# Altium integrated library Microchip PIC10.IntLib: 94 symbols (part 3 of 3)
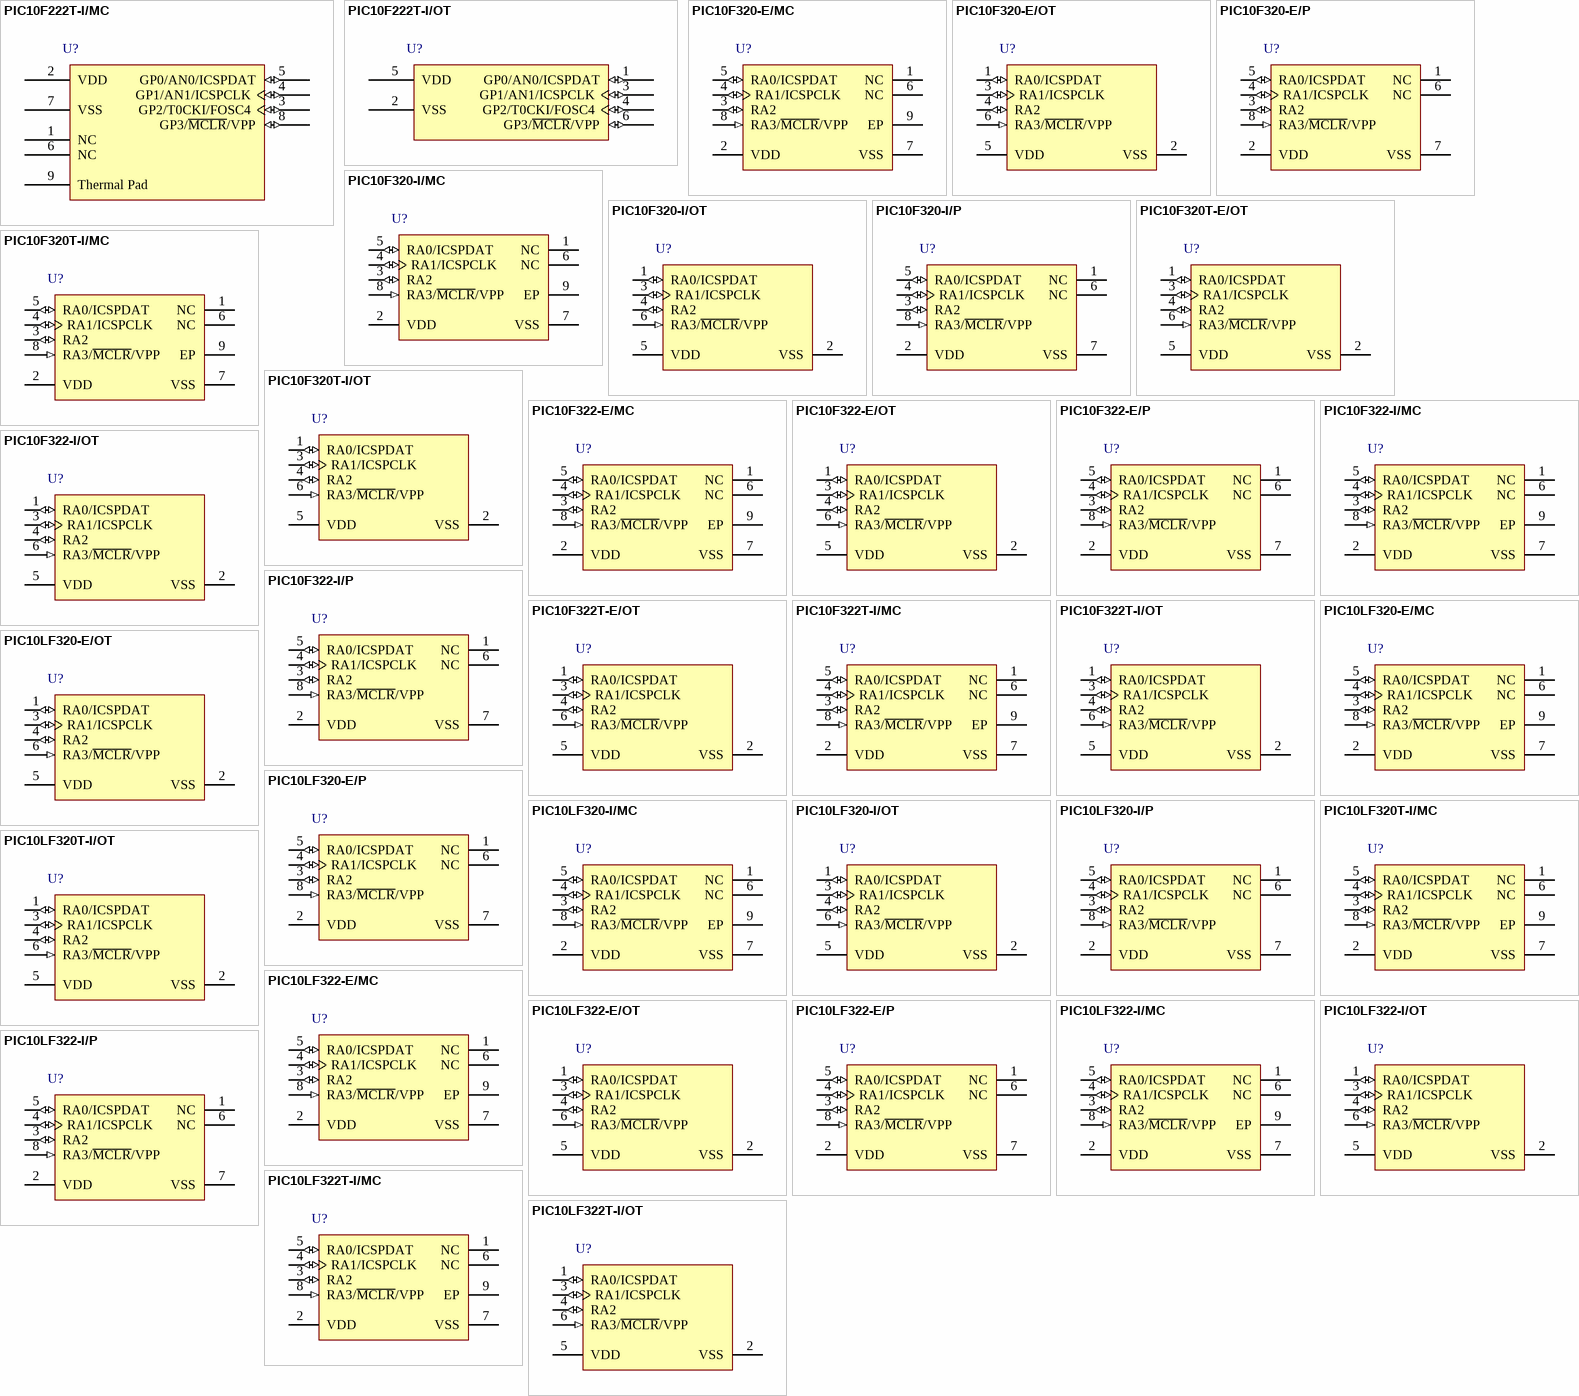
[diagram p4: symbols PIC10F222T-I/MC to PIC10LF322T-I/OT]

## PIC10LF320-E/P
designator U?
High-Performance, Flash Microcontroller, 16 MHz, 3 I/O, -40 to 125 degC, 8-pin PDIP (P8), Tube; Manufacturer: Microchip; PartNumber: PIC10LF320-E/P; # of A/D Channels: 3; Digital Communication: 0 -UART; Internal Oscillator: 16 MHz, 31 kHz; Max. CPU Speed MHz: 16; Operation Voltage Range: 1.8V - 3.6V; Program Memory KBytes: 0.4375; Program Memory KWords: 0.25; RAM: 64; Timers: 2 - 8-bit; DatasheetVersion: Rev. A; PackageVersion: C04-018B, 12/2012; PackageReference: PDIP-P8; PackageDescription: 8-Lead Plastic Dual In-Line, Row Spacing 7.62 mm, 9.5 x 6.6 mm Body, 2.54 mm Pitch; Supplier 1: Digi-Key; Supplier Part Number 1: PIC10LF320-E/P-ND; Supplier 2: Mouser; Supplier Part Number 2: 579-PIC10LF320-E/P; I/O Pins: 3; Memory Type: Flash; Packing: TUBE; Mounting Technology: Through Hole; ComponentLink1Description: Manufacturer URL; ComponentLink1URL: http://www.microchip.com/; ComponentLink2Description: Datasheet; ComponentLink2URL: http://ww1.microchip.com/downloads/en/DeviceDoc/41585A.pdf; ComponentLink3Description: Package Specification; ComponentLink3URL: http://www.microchip.com/stellent/groups/techpub_sg/documents/packagingspec/en012702.pdf; ComponentLink4Description: URL Link1; ComponentLink4URL: Product URL:http://www.microchip.com/datasheet/PIC10F320
footprint MCHP-PDIP-P8 (PDIP, 8-Leads, Body 9.5x6.604mm, Pitch 2.54mm)
pins: 1 NC, 2 VDD (power) "Positive supply.", 3 RA2 (io), 4 RA1/ICSPCLK (io), 5 RA0/ICSPDAT (io), 6 NC, 7 VSS (power) "Ground reference.", 8 RA3/~{MCLR}/VPP (in)

## PIC10LF320-I/MC
designator U?
High-Performance, Flash Microcontroller, 16 MHz, 3 I/O, -40 to 85 degC, 8-pin DFN (MC8), Tube; Manufacturer: Microchip; PartNumber: PIC10LF320-I/MC; # of A/D Channels: 3; Digital Communication: 0 -UART; Internal Oscillator: 16 MHz, 31 kHz; Max. CPU Speed MHz: 16; Operation Voltage Range: 1.8V - 3.6V; Program Memory KBytes: 0.4375; Program Memory KWords: 0.25; RAM: 64; Timers: 2 - 8-bit; DatasheetVersion: Rev. A; PackageVersion: C04-123C, 12/2012; PackageReference: DFN-MC8; PackageDescription: 8-Lead Plastic Dual Flat, 2 x 3 mm Body, 0.5 mm Pitch; Supplier 1: Digi-Key; Supplier Part Number 1: PIC10LF320-I/MC-ND; Supplier 2: Farnell; Supplier Part Number 2: 2074921; Supplier 3: Newark; Supplier Part Number 3: 41T4347; Supplier 4: Mouser; Supplier Part Number 4: 579-PIC10LF320-I/MC; I/O Pins: 3; Memory Type: Flash; Packing: TUBE; Mounting Technology: Surface Mount; ComponentLink1Description: Manufacturer URL; ComponentLink1URL: http://www.microchip.com/; ComponentLink2Description: Datasheet; ComponentLink2URL: http://ww1.microchip.com/downloads/en/DeviceDoc/41585A.pdf; ComponentLink3Description: Package Specification; ComponentLink3URL: http://www.microchip.com/stellent/groups/techpub_sg/documents/packagingspec/en012702.pdf; ComponentLink4Description: URL Link1; ComponentLink4URL: Product URL:http://www.microchip.com/datasheet/PIC10F320
footprint MCHP-DFN-MC8_V (SON, 8-Leads, Body 3x2mm, Pitch 0.5mm, Thermal Pad 1.45x1.75mm)
pins: 1 NC, 2 VDD (power) "Positive supply.", 3 RA2 (io), 4 RA1/ICSPCLK (io), 5 RA0/ICSPDAT (io), 6 NC, 7 VSS (power) "Ground reference.", 8 RA3/~{MCLR}/VPP (in), 9 EP

## PIC10LF320-I/OT
designator U?
High-Performance, Flash Microcontroller, 16 MHz, 3 I/O, -40 to 85 degC, 6-pin SOT-23 (OT6), Bag; Manufacturer: Microchip; PartNumber: PIC10LF320-I/OT; # of A/D Channels: 3; Digital Communication: 0 -UART; Internal Oscillator: 16 MHz, 31 kHz; Max. CPU Speed MHz: 16; Operation Voltage Range: 1.8V - 3.6V; Program Memory KBytes: 0.4375; Program Memory KWords: 0.25; RAM: 64; Timers: 2 - 8-bit; DatasheetVersion: Rev. A; PackageVersion: C04-028B, 12/2012; PackageReference: SOT-23-OT6; PackageDescription: 6-Lead Plastic Small Outline Transistor, 2.9 x 1.55 mm Body, 0.95 mm Pitch; Supplier 1: Digi-Key; Supplier Part Number 1: PIC10LF320-I/OT-ND; Supplier 2: Newark; Supplier Part Number 2: 41T4348; Supplier 3: Mouser; Supplier Part Number 3: 579-PIC10LF320-I/OT; I/O Pins: 3; Memory Type: Flash; Packing: BAG; Mounting Technology: Surface Mount; ComponentLink1Description: Manufacturer URL; ComponentLink1URL: http://www.microchip.com/; ComponentLink2Description: Datasheet; ComponentLink2URL: http://ww1.microchip.com/downloads/en/DeviceDoc/41585A.pdf; ComponentLink3Description: Package Specification; ComponentLink3URL: http://www.microchip.com/stellent/groups/techpub_sg/documents/packagingspec/en012702.pdf; ComponentLink4Description: URL Link1; ComponentLink4URL: Product URL:http://www.microchip.com/datasheet/PIC10F320
footprint MCHP-SOT-23-OT6_N (SOT23, 6-Leads, Body 2.9x1.55mm, Pitch 0.95mm, IPC Medium Density)
footprint MCHP-SOT-23-OT6_L (SOT23, 6-Leads, Body 2.9x1.55mm, Pitch 0.95mm, IPC High Density)
footprint MCHP-SOT-23-OT6_M (SOT23, 6-Leads, Body 2.9x1.55mm, Pitch 0.95mm, IPC Low Density)
pins: 1 RA0/ICSPDAT (io), 2 VSS (power) "Ground reference.", 3 RA1/ICSPCLK (io), 4 RA2 (io), 5 VDD (power) "Positive supply.", 6 RA3/~{MCLR}/VPP (in)

## PIC10LF320-I/P
designator U?
High-Performance, Flash Microcontroller, 16 MHz, 3 I/O, -40 to 85 degC, 8-pin PDIP (P8), Tube; Manufacturer: Microchip; PartNumber: PIC10LF320-I/P; # of A/D Channels: 3; Digital Communication: 0 -UART; Internal Oscillator: 16 MHz, 31 kHz; Max. CPU Speed MHz: 16; Operation Voltage Range: 1.8V - 3.6V; Program Memory KBytes: 0.4375; Program Memory KWords: 0.25; RAM: 64; Timers: 2 - 8-bit; DatasheetVersion: Rev. A; PackageVersion: C04-018B, 12/2012; PackageReference: PDIP-P8; PackageDescription: 8-Lead Plastic Dual In-Line, Row Spacing 7.62 mm, 9.5 x 6.6 mm Body, 2.54 mm Pitch; Supplier 1: Digi-Key; Supplier Part Number 1: PIC10LF320-I/P-ND; Supplier 2: Newark; Supplier Part Number 2: 41T4349; Supplier 3: Mouser; Supplier Part Number 3: 579-PIC10LF320-I/P; I/O Pins: 3; Memory Type: Flash; Packing: TUBE; Mounting Technology: Through Hole; ComponentLink1Description: Manufacturer URL; ComponentLink1URL: http://www.microchip.com/; ComponentLink2Description: Datasheet; ComponentLink2URL: http://ww1.microchip.com/downloads/en/DeviceDoc/41585A.pdf; ComponentLink3Description: Package Specification; ComponentLink3URL: http://www.microchip.com/stellent/groups/techpub_sg/documents/packagingspec/en012702.pdf; ComponentLink4Description: URL Link1; ComponentLink4URL: Product URL:http://www.microchip.com/datasheet/PIC10F320
footprint MCHP-PDIP-P8 (PDIP, 8-Leads, Body 9.5x6.604mm, Pitch 2.54mm)
pins: 1 NC, 2 VDD (power) "Positive supply.", 3 RA2 (io), 4 RA1/ICSPCLK (io), 5 RA0/ICSPDAT (io), 6 NC, 7 VSS (power) "Ground reference.", 8 RA3/~{MCLR}/VPP (in)

## PIC10LF320T-I/MC
designator U?
High-Performance, Flash Microcontroller, 16 MHz, 3 I/O, -40 to 85 degC, 8-pin DFN (MC8), Tape and Reel; Manufacturer: Microchip; PartNumber: PIC10LF320T-I/MC; # of A/D Channels: 3; Digital Communication: 0 -UART; Internal Oscillator: 16 MHz, 31 kHz; Max. CPU Speed MHz: 16; Operation Voltage Range: 1.8V - 3.6V; Packing: T/R; Program Memory KBytes: 0.4375; Program Memory KWords: 0.25; RAM: 64; Timers: 2 - 8-bit; DatasheetVersion: Rev. A; PackageVersion: C04-123C, 12/2012; PackageReference: DFN-MC8; PackageDescription: 8-Lead Plastic Dual Flat, 2 x 3 mm Body, 0.5 mm Pitch; Supplier 1: Digi-Key; Supplier Part Number 1: PIC10LF320T-I/MC-ND; Supplier 2: Farnell; Supplier Part Number 2: 2074924; Supplier 3: Farnell; Supplier Part Number 3: 2074924RL; Supplier 4: Newark; Supplier Part Number 4: 65T4798; Supplier 5: Mouser; Supplier Part Number 5: 579-PIC10LF320T-I/MC; I/O Pins: 3; Memory Type: Flash; Mounting Technology: Surface Mount; ComponentLink1Description: Manufacturer URL; ComponentLink1URL: http://www.microchip.com/; ComponentLink2Description: Datasheet; ComponentLink2URL: http://ww1.microchip.com/downloads/en/DeviceDoc/41585A.pdf; ComponentLink3Description: Package Specification; ComponentLink3URL: http://www.microchip.com/stellent/groups/techpub_sg/documents/packagingspec/en012702.pdf; ComponentLink4Description: URL Link1; ComponentLink4URL: Product URL:http://www.microchip.com/datasheet/PIC10F320
footprint MCHP-DFN-MC8_V (SON, 8-Leads, Body 3x2mm, Pitch 0.5mm, Thermal Pad 1.45x1.75mm)
pins: 1 NC, 2 VDD (power) "Positive supply.", 3 RA2 (io), 4 RA1/ICSPCLK (io), 5 RA0/ICSPDAT (io), 6 NC, 7 VSS (power) "Ground reference.", 8 RA3/~{MCLR}/VPP (in), 9 EP

## PIC10LF320T-I/OT
designator U?
High-Performance, Flash Microcontroller, 16 MHz, 3 I/O, -40 to 85 degC, 6-pin SOT-23 (OT6), Tape and Reel; Manufacturer: Microchip; PartNumber: PIC10LF320T-I/OT; # of A/D Channels: 3; Digital Communication: 0 -UART; Internal Oscillator: 16 MHz, 31 kHz; Max. CPU Speed MHz: 16; Operation Voltage Range: 1.8V - 3.6V; Packing: T/R; Program Memory KBytes: 0.4375; Program Memory KWords: 0.25; RAM: 64; Timers: 2 - 8-bit; DatasheetVersion: Rev. A; PackageVersion: C04-028B, 12/2012; PackageReference: SOT-23-OT6; PackageDescription: 6-Lead Plastic Small Outline Transistor, 2.9 x 1.55 mm Body, 0.95 mm Pitch; Supplier 1: Digi-Key; Supplier Part Number 1: PIC10LF320T-I/OTTR-ND; Supplier 2: Digi-Key; Supplier Part Number 2: PIC10LF320T-I/OTCT-ND; Supplier 3: Digi-Key; Supplier Part Number 3: PIC10LF320T-I/OTDKR-ND; Supplier 4: Farnell; Supplier Part Number 4: 2079390; Supplier 5: Newark; Supplier Part Number 5: 65T4799; Supplier 6: Mouser; Supplier Part Number 6: 579-PIC10LF320T-I/OT; I/O Pins: 3; Memory Type: Flash; Mounting Technology: Surface Mount; ComponentLink1Description: Manufacturer URL; ComponentLink1URL: http://www.microchip.com/; ComponentLink2Description: Datasheet; ComponentLink2URL: http://ww1.microchip.com/downloads/en/DeviceDoc/41585A.pdf; ComponentLink3Description: Package Specification; ComponentLink3URL: http://www.microchip.com/stellent/groups/techpub_sg/documents/packagingspec/en012702.pdf; ComponentLink4Description: URL Link1; ComponentLink4URL: Product URL:http://www.microchip.com/datasheet/PIC10F320
footprint MCHP-SOT-23-OT6_N (SOT23, 6-Leads, Body 2.9x1.55mm, Pitch 0.95mm, IPC Medium Density)
footprint MCHP-SOT-23-OT6_L (SOT23, 6-Leads, Body 2.9x1.55mm, Pitch 0.95mm, IPC High Density)
footprint MCHP-SOT-23-OT6_M (SOT23, 6-Leads, Body 2.9x1.55mm, Pitch 0.95mm, IPC Low Density)
pins: 1 RA0/ICSPDAT (io), 2 VSS (power) "Ground reference.", 3 RA1/ICSPCLK (io), 4 RA2 (io), 5 VDD (power) "Positive supply.", 6 RA3/~{MCLR}/VPP (in)

## PIC10LF322-E/MC
designator U?
High-Performance, Flash Microcontroller, 16 MHz, 3 I/O, -40 to 125 degC, 8-pin DFN (MC8), Tube; Manufacturer: Microchip; PartNumber: PIC10LF322-E/MC; # of A/D Channels: 3; Internal Oscillator: 16 MHz, 31 kHz; Max. CPU Speed MHz: 16; Operation Voltage Range: 1.8V - 3.6V; Program Memory KBytes: 0.896; Program Memory KWords: 0.512; RAM: 64; Timers: 2 - 8-bit, 0 - 16-bit, 0 - 32-bit; DatasheetVersion: Rev. A; PackageVersion: C04-123C, 12/2012; PackageReference: DFN-MC8; PackageDescription: 8-Lead Plastic Dual Flat, 2 x 3 mm Body, 0.5 mm Pitch; Supplier 1: Digi-Key; Supplier Part Number 1: PIC10LF322-E/MC-ND; Supplier 2: Mouser; Supplier Part Number 2: 579-PIC10LF322-E/MC; I/O Pins: 3; Memory Type: Flash; Packing: TUBE; Mounting Technology: Surface Mount; ComponentLink1Description: Manufacturer URL; ComponentLink1URL: http://www.microchip.com/; ComponentLink2Description: Datasheet; ComponentLink2URL: http://ww1.microchip.com/downloads/en/DeviceDoc/41585A.pdf; ComponentLink3Description: Package Specification; ComponentLink3URL: http://www.microchip.com/stellent/groups/techpub_sg/documents/packagingspec/en012702.pdf; ComponentLink4Description: URL Link1; ComponentLink4URL: Product URL:http://www.microchip.com/datasheet/PIC10F322
footprint MCHP-DFN-MC8_V (SON, 8-Leads, Body 3x2mm, Pitch 0.5mm, Thermal Pad 1.45x1.75mm)
pins: 1 NC, 2 VDD (power) "Positive supply.", 3 RA2 (io) "General purpose I/O with IOC and WPU.", 4 RA1/ICSPCLK (io), 5 RA0/ICSPDAT (io), 6 NC, 7 VSS (power) "Ground reference.", 8 RA3/~{MCLR}/VPP (in), 9 EP

## PIC10LF322-E/OT
designator U?
High-Performance, Flash Microcontroller, 16 MHz, 3 I/O, -40 to 125 degC, 6-pin SOT-23 (OT6), Bag; Manufacturer: Microchip; PartNumber: PIC10LF322-E/OT; # of A/D Channels: 3; Internal Oscillator: 16 MHz, 31 kHz; Max. CPU Speed MHz: 16; Operation Voltage Range: 1.8V - 3.6V; Program Memory KBytes: 0.896; Program Memory KWords: 0.512; RAM: 64; Timers: 2 - 8-bit, 0 - 16-bit, 0 - 32-bit; DatasheetVersion: Rev. A; PackageVersion: C04-028B, 12/2012; PackageReference: SOT-23-OT6; PackageDescription: 6-Lead Plastic Small Outline Transistor, 2.9 x 1.55 mm Body, 0.95 mm Pitch; Supplier 1: Digi-Key; Supplier Part Number 1: PIC10LF322-E/OT-ND; Supplier 2: Mouser; Supplier Part Number 2: 579-PIC10LF322-E/OT; I/O Pins: 3; Memory Type: Flash; Packing: BAG; Mounting Technology: Surface Mount; ComponentLink1Description: Manufacturer URL; ComponentLink1URL: http://www.microchip.com/; ComponentLink2Description: Datasheet; ComponentLink2URL: http://ww1.microchip.com/downloads/en/DeviceDoc/41585A.pdf; ComponentLink3Description: Package Specification; ComponentLink3URL: http://www.microchip.com/stellent/groups/techpub_sg/documents/packagingspec/en012702.pdf; ComponentLink4Description: URL Link1; ComponentLink4URL: Product URL:http://www.microchip.com/datasheet/PIC10F322
footprint MCHP-SOT-23-OT6_N (SOT23, 6-Leads, Body 2.9x1.55mm, Pitch 0.95mm, IPC Medium Density)
footprint MCHP-SOT-23-OT6_L (SOT23, 6-Leads, Body 2.9x1.55mm, Pitch 0.95mm, IPC High Density)
footprint MCHP-SOT-23-OT6_M (SOT23, 6-Leads, Body 2.9x1.55mm, Pitch 0.95mm, IPC Low Density)
pins: 1 RA0/ICSPDAT (io), 2 VSS (power) "Ground reference.", 3 RA1/ICSPCLK (io), 4 RA2 (io), 5 VDD (power) "Positive supply.", 6 RA3/~{MCLR}/VPP (in)

## PIC10LF322-E/P
designator U?
High-Performance, Flash Microcontroller, 16 MHz, 3 I/O, -40 to 125 degC, 8-pin PDIP (P8), Tube; Manufacturer: Microchip; PartNumber: PIC10LF322-E/P; # of A/D Channels: 3; Internal Oscillator: 16 MHz, 31 kHz; Max. CPU Speed MHz: 16; Operation Voltage Range: 1.8V - 3.6V; Program Memory KBytes: 0.896; Program Memory KWords: 0.512; RAM: 64; Timers: 2 - 8-bit, 0 - 16-bit, 0 - 32-bit; DatasheetVersion: Rev. A; PackageVersion: C04-018B, 12/2012; PackageReference: PDIP-P8; PackageDescription: 8-Lead Plastic Dual In-Line, Row Spacing 7.62 mm, 9.5 x 6.6 mm Body, 2.54 mm Pitch; Supplier 1: Digi-Key; Supplier Part Number 1: PIC10LF322-E/P-ND; Supplier 2: Mouser; Supplier Part Number 2: 579-PIC10LF322-E/P; I/O Pins: 3; Memory Type: Flash; Packing: TUBE; Mounting Technology: Through Hole; ComponentLink1Description: Manufacturer URL; ComponentLink1URL: http://www.microchip.com/; ComponentLink2Description: Datasheet; ComponentLink2URL: http://ww1.microchip.com/downloads/en/DeviceDoc/41585A.pdf; ComponentLink3Description: Package Specification; ComponentLink3URL: http://www.microchip.com/stellent/groups/techpub_sg/documents/packagingspec/en012702.pdf; ComponentLink4Description: URL Link1; ComponentLink4URL: Product URL:http://www.microchip.com/datasheet/PIC10F322
footprint MCHP-PDIP-P8 (PDIP, 8-Leads, Body 9.5x6.604mm, Pitch 2.54mm)
pins: 1 NC, 2 VDD (power) "Positive supply.", 3 RA2 (io), 4 RA1/ICSPCLK (io), 5 RA0/ICSPDAT (io), 6 NC, 7 VSS (power) "Ground reference.", 8 RA3/~{MCLR}/VPP (in)

## PIC10LF322-I/MC
designator U?
High-Performance, Flash Microcontroller, 16 MHz, 3 I/O, -40 to 85 degC, 8-pin DFN (MC8), Tube; Manufacturer: Microchip; PartNumber: PIC10LF322-I/MC; # of A/D Channels: 3; Internal Oscillator: 16 MHz, 31 kHz; Max. CPU Speed MHz: 16; Operation Voltage Range: 1.8V - 3.6V; Program Memory KBytes: 0.896; Program Memory KWords: 0.512; RAM: 64; Timers: 2 - 8-bit, 0 - 16-bit; DatasheetVersion: Rev. A; PackageVersion: C04-123C, 12/2012; PackageReference: DFN-MC8; PackageDescription: 8-Lead Plastic Dual Flat, 2 x 3 mm Body, 0.5 mm Pitch; Supplier 1: Digi-Key; Supplier Part Number 1: PIC10LF322-I/MC-ND; Supplier 2: Farnell; Supplier Part Number 2: 2074925; Supplier 3: Newark; Supplier Part Number 3: 41T4355; Supplier 4: Mouser; Supplier Part Number 4: 579-PIC10LF322-I/MC; I/O Pins: 3; Memory Type: Flash; Packing: TUBE; Mounting Technology: Surface Mount; ComponentLink1Description: Manufacturer URL; ComponentLink1URL: http://www.microchip.com/; ComponentLink2Description: Datasheet; ComponentLink2URL: http://ww1.microchip.com/downloads/en/DeviceDoc/41585A.pdf; ComponentLink3Description: Package Specification; ComponentLink3URL: http://www.microchip.com/stellent/groups/techpub_sg/documents/packagingspec/en012702.pdf; ComponentLink4Description: URL Link1; ComponentLink4URL: Product URL:http://www.microchip.com/datasheet/PIC10F322
footprint MCHP-DFN-MC8_V (SON, 8-Leads, Body 3x2mm, Pitch 0.5mm, Thermal Pad 1.45x1.75mm)
pins: 1 NC, 2 VDD (power) "Positive supply.", 3 RA2 (io) "General purpose I/O with IOC and WPU.", 4 RA1/ICSPCLK (io), 5 RA0/ICSPDAT (io), 6 NC, 7 VSS (power) "Ground reference.", 8 RA3/~{MCLR}/VPP (in), 9 EP

## PIC10LF322-I/OT
designator U?
High-Performance, Flash Microcontroller, 16 MHz, 3 I/O, -40 to 85 degC, 6-pin SOT-23 (OT6), Bag; Manufacturer: Microchip; PartNumber: PIC10LF322-I/OT; # of A/D Channels: 3; Internal Oscillator: 16 MHz, 31 kHz; Max. CPU Speed MHz: 16; Operation Voltage Range: 1.8V - 3.6V; Program Memory KBytes: 0.896; Program Memory KWords: 0.512; RAM: 64; Timers: 2 - 8-bit, 0 - 16-bit; DatasheetVersion: Rev. A; PackageVersion: C04-028B, 12/2012; PackageReference: SOT-23-OT6; PackageDescription: 6-Lead Plastic Small Outline Transistor, 2.9 x 1.55 mm Body, 0.95 mm Pitch; Supplier 1: Digi-Key; Supplier Part Number 1: PIC10LF322-I/OT-ND; Supplier 2: Farnell; Supplier Part Number 2: 2062984; Supplier 3: Newark; Supplier Part Number 3: 41T4356; Supplier 4: Mouser; Supplier Part Number 4: 579-PIC10LF322-I/OT; I/O Pins: 3; Memory Type: Flash; Packing: BAG; Mounting Technology: Surface Mount; ComponentLink1Description: Manufacturer URL; ComponentLink1URL: http://www.microchip.com/; ComponentLink2Description: Datasheet; ComponentLink2URL: http://ww1.microchip.com/downloads/en/DeviceDoc/41585A.pdf; ComponentLink3Description: Package Specification; ComponentLink3URL: http://www.microchip.com/stellent/groups/techpub_sg/documents/packagingspec/en012702.pdf; ComponentLink4Description: URL Link1; ComponentLink4URL: Product URL:http://www.microchip.com/datasheet/PIC10F322
footprint MCHP-SOT-23-OT6_N (SOT23, 6-Leads, Body 2.9x1.55mm, Pitch 0.95mm, IPC Medium Density)
footprint MCHP-SOT-23-OT6_L (SOT23, 6-Leads, Body 2.9x1.55mm, Pitch 0.95mm, IPC High Density)
footprint MCHP-SOT-23-OT6_M (SOT23, 6-Leads, Body 2.9x1.55mm, Pitch 0.95mm, IPC Low Density)
pins: 1 RA0/ICSPDAT (io), 2 VSS (power) "Ground reference.", 3 RA1/ICSPCLK (io), 4 RA2 (io), 5 VDD (power) "Positive supply.", 6 RA3/~{MCLR}/VPP (in)

## PIC10LF322-I/P
designator U?
High-Performance, Flash Microcontroller, 16 MHz, 3 I/O, -40 to 85 degC, 8-pin PDIP (P8), Tube; Manufacturer: Microchip; PartNumber: PIC10LF322-I/P; # of A/D Channels: 3; Internal Oscillator: 16 MHz, 31 kHz; Max. CPU Speed MHz: 16; Operation Voltage Range: 1.8V - 3.6V; Program Memory KBytes: 0.896; Program Memory KWords: 0.512; RAM: 64; Timers: 2 - 8-bit, 0 - 16-bit, 0 - 32-bit; DatasheetVersion: Rev. A; PackageVersion: C04-018B, 12/2012; PackageReference: PDIP-P8; PackageDescription: 8-Lead Plastic Dual In-Line, Row Spacing 7.62 mm, 9.5 x 6.6 mm Body, 2.54 mm Pitch; Supplier 1: Digi-Key; Supplier Part Number 1: PIC10LF322-I/P-ND; Supplier 2: Farnell; Supplier Part Number 2: 2074926; Supplier 3: Newark; Supplier Part Number 3: 41T4357; Supplier 4: Mouser; Supplier Part Number 4: 579-PIC10LF322-I/P; I/O Pins: 3; Memory Type: Flash; Packing: TUBE; Mounting Technology: Through Hole; ComponentLink1Description: Manufacturer URL; ComponentLink1URL: http://www.microchip.com/; ComponentLink2Description: Datasheet; ComponentLink2URL: http://ww1.microchip.com/downloads/en/DeviceDoc/41585A.pdf; ComponentLink3Description: Package Specification; ComponentLink3URL: http://www.microchip.com/stellent/groups/techpub_sg/documents/packagingspec/en012702.pdf; ComponentLink4Description: URL Link1; ComponentLink4URL: Product URL:http://www.microchip.com/datasheet/PIC10F322
footprint MCHP-PDIP-P8 (PDIP, 8-Leads, Body 9.5x6.604mm, Pitch 2.54mm)
pins: 1 NC, 2 VDD (power) "Positive supply.", 3 RA2 (io), 4 RA1/ICSPCLK (io), 5 RA0/ICSPDAT (io), 6 NC, 7 VSS (power) "Ground reference.", 8 RA3/~{MCLR}/VPP (in)

## PIC10LF322T-I/MC
designator U?
High-Performance, Flash Microcontroller, 16 MHz, 3 I/O, -40 to 85 degC, 8-pin DFN (MC8), Tape and Reel; Manufacturer: Microchip; PartNumber: PIC10LF322T-I/MC; # of A/D Channels: 3; Internal Oscillator: 16 MHz, 31 kHz; Max. CPU Speed MHz: 16; Operation Voltage Range: 1.8V - 3.6V; Packing: T/R; Program Memory KBytes: 0.896; Program Memory KWords: 0.512; RAM: 64; Timers: 2 - 8-bit, 0 - 16-bit, 0 - 32-bit; DatasheetVersion: Rev. A; PackageVersion: C04-123C, 12/2012; PackageReference: DFN-MC8; PackageDescription: 8-Lead Plastic Dual Flat, 2 x 3 mm Body, 0.5 mm Pitch; Supplier 1: Digi-Key; Supplier Part Number 1: PIC10LF322T-I/MC-ND; Supplier 2: Farnell; Supplier Part Number 2: 2074927; Supplier 3: Farnell; Supplier Part Number 3: 2074927RL; Supplier 4: Newark; Supplier Part Number 4: 65T4800; Supplier 5: Mouser; Supplier Part Number 5: 579-PIC10LF322T-I/MC; I/O Pins: 3; Memory Type: Flash; Mounting Technology: Surface Mount; ComponentLink1Description: Manufacturer URL; ComponentLink1URL: http://www.microchip.com/; ComponentLink2Description: Datasheet; ComponentLink2URL: http://ww1.microchip.com/downloads/en/DeviceDoc/41585A.pdf; ComponentLink3Description: Package Specification; ComponentLink3URL: http://www.microchip.com/stellent/groups/techpub_sg/documents/packagingspec/en012702.pdf; ComponentLink4Description: URL Link1; ComponentLink4URL: Product URL:http://www.microchip.com/datasheet/PIC10F322
footprint MCHP-DFN-MC8_V (SON, 8-Leads, Body 3x2mm, Pitch 0.5mm, Thermal Pad 1.45x1.75mm)
pins: 1 NC, 2 VDD (power) "Positive supply.", 3 RA2 (io), 4 RA1/ICSPCLK (io), 5 RA0/ICSPDAT (io), 6 NC, 7 VSS (power) "Ground reference.", 8 RA3/~{MCLR}/VPP (in), 9 EP

## PIC10LF322T-I/OT
designator U?
High-Performance, Flash Microcontroller, 16 MHz, 3 I/O, -40 to 85 degC, 6-pin SOT-23 (OT6), Tape and Reel; Manufacturer: Microchip; PartNumber: PIC10LF322T-I/OT; # of A/D Channels: 3; Internal Oscillator: 16 MHz, 31 kHz; Max. CPU Speed MHz: 16; Operation Voltage Range: 1.8V - 3.6V; Packing: T/R; Program Memory KBytes: 0.896; Program Memory KWords: 0.512; RAM: 64; Timers: 2 - 8-bit, 0 - 16-bit, 0 - 32-bit; DatasheetVersion: Rev. A; PackageVersion: C04-028B, 12/2012; PackageReference: SOT-23-OT6; PackageDescription: 6-Lead Plastic Small Outline Transistor, 2.9 x 1.55 mm Body, 0.95 mm Pitch; Supplier 1: Digi-Key; Supplier Part Number 1: PIC10LF322T-I/OTTR-ND; Supplier 2: Digi-Key; Supplier Part Number 2: PIC10LF322T-I/OTCT-ND; Supplier 3: Digi-Key; Supplier Part Number 3: PIC10LF322T-I/OTDKR-ND; Supplier 4: Farnell; Supplier Part Number 4: 2074929; Supplier 5: Newark; Supplier Part Number 5: 65T4801; Supplier 6: Newark; Supplier Part Number 6: 76T2310; Supplier 7: Mouser; Supplier Part Number 7: 579-PIC10LF322T-I/OT; I/O Pins: 3; Memory Type: Flash; Mounting Technology: Surface Mount; ComponentLink1Description: Manufacturer URL; ComponentLink1URL: http://www.microchip.com/; ComponentLink2Description: Datasheet; ComponentLink2URL: http://ww1.microchip.com/downloads/en/DeviceDoc/41585A.pdf; ComponentLink3Description: Package Specification; ComponentLink3URL: http://www.microchip.com/stellent/groups/techpub_sg/documents/packagingspec/en012702.pdf; ComponentLink4Description: URL Link1; ComponentLink4URL: Product URL:http://www.microchip.com/datasheet/PIC10F322
footprint MCHP-SOT-23-OT6_N (SOT23, 6-Leads, Body 2.9x1.55mm, Pitch 0.95mm, IPC Medium Density)
footprint MCHP-SOT-23-OT6_L (SOT23, 6-Leads, Body 2.9x1.55mm, Pitch 0.95mm, IPC High Density)
footprint MCHP-SOT-23-OT6_M (SOT23, 6-Leads, Body 2.9x1.55mm, Pitch 0.95mm, IPC Low Density)
pins: 1 RA0/ICSPDAT (io), 2 VSS (power) "Ground reference.", 3 RA1/ICSPCLK (io), 4 RA2 (io), 5 VDD (power) "Positive supply.", 6 RA3/~{MCLR}/VPP (in)